# Altium schematic symbol library LAN8710.SchLib: 1 symbol
Pins are listed as number, name and electrical type; pins without a type are passive.

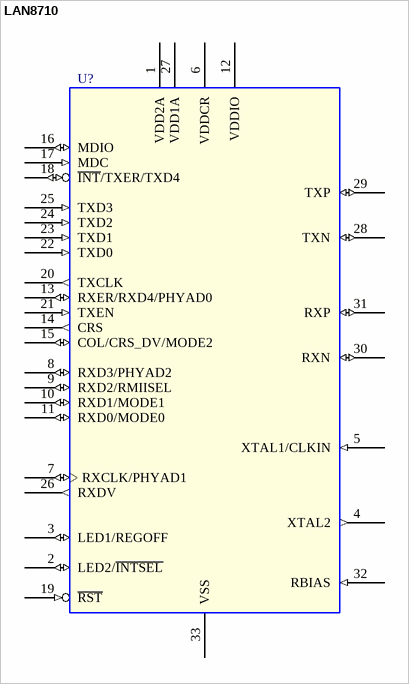
[diagram p0: symbol LAN8710]

## LAN8710
designator U?
IC XCVR ETHERNET PHY MII/RMII 1.8-3.3V SQFN32
pins: 1 VDD2A (power), 2 LED2/~{INTSEL} (io), 3 LED1/REGOFF (io), 4 XTAL2 (out), 5 XTAL1/CLKIN (in), 6 VDDCR (power), 7 RXCLK/PHYAD1 (io), 8 RXD3/PHYAD2 (io), 9 RXD2/RMIISEL (io), 10 RXD1/MODE1 (io), 11 RXD0/MODE0 (io), 12 VDDIO (power), 13 RXER/RXD4/PHYAD0 (io), 14 CRS (out), 15 COL/CRS_DV/MODE2 (io), 16 MDIO (io), 17 MDC (in), 18 ~{INT}/TXER/TXD4 (io), 19 ~{RST} (in), 20 TXCLK (out), 21 TXEN (in), 22 TXD0 (in), 23 TXD1 (in), 24 TXD2 (in), 25 TXD3 (in), 26 RXDV (out), 27 VDD1A (power), 28 TXN (io), 29 TXP (io), 30 RXN (io), 31 RXP (io), 32 RBIAS (in), 33 VSS (power)